# Altium footprint library 3020-06-0300-00.PcbLib: 1 footprints
Each footprint in its own frame and in the unit in brackets; x right, y up, seen from the top. Pads: shape width x height; smd on the part's side, far side on the other; paste and mask are expansions set on the pad; w line width, h text height; cw(c..) or ccw(c..) is an arc to the next point about the centre after c.
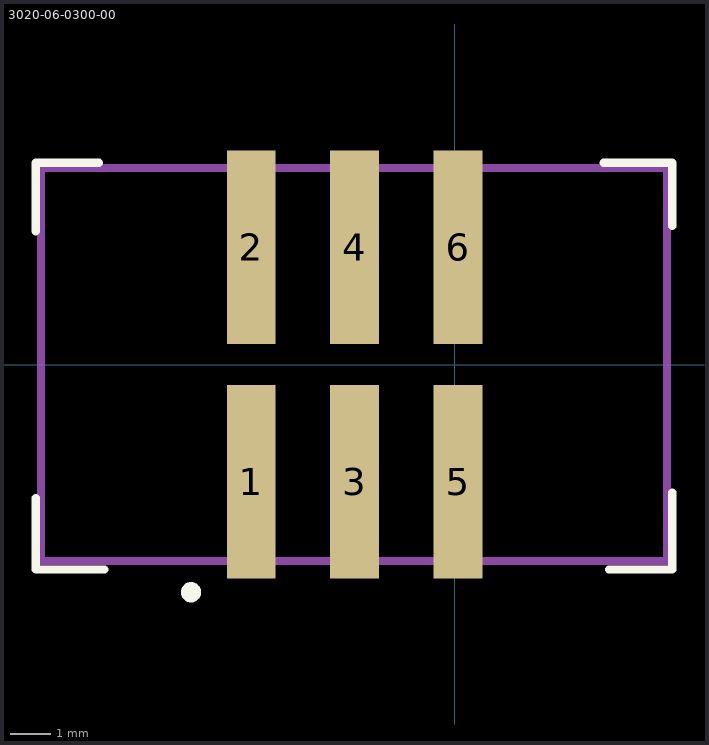
[diagram p0: the footprint, top view; thin cyan lines are the x and y axes]

## 3020-06-0300-00 [mm]
pads (6):
  rect 1.2x4.75 smd paste+0 mask+0: 1(-5,-2.875) 2(-5,2.875) 3(-2.46,-2.875) 4(-2.46,2.875) 5(0.08,-2.875) 6(0.08,2.875)
Top Overlay:
  circle w0.25: c-6.477,-5.588 r0.125
  lines w0.2: -10.287,-3.272 -10.287,-5.03 -8.605,-5.03 ; -10.287,3.271 -10.287,4.953 -8.733,4.953 ; 3.652,4.953 5.334,4.953 5.334,3.399 ; 3.78,-5.03 5.334,-5.03 5.334,-3.144
Top Assembly:
  text ".Designator" at 0,-2.688 h1
Top Courtyard:
  lines w0.2: 5.16,-4.826 -10.16,-4.826 -10.16,4.826 5.16,4.826 ; 5.207,-4.826 5.207,-2.413 5.207,2.413 5.207,4.826
3D body "3020-06-0300-00_3D.STEP": height 10.29, standoff -0.03, extent -10.1,-4.76 5.14,4.74